# EAGLE library part 615008137121 (library Input-Output_Connectors_rev15d)
WR-MJ Horizontal Plastic 8P8C Modular Jack Tab Down, 8 Pins=>Code : Con_I_O_MJ-H_Plastic_Down_615008137121 <http://katalog.we-online.de/media/images/eican/Con_I_O_MJ-H_Plastic_Down_615008137121_pf2.jpg> Details see: http://katalog.we-online.de/en/em/615_008_137_121 Created 2014-07-10, Karrer Zheng 2014 (C) Würth Elektronik
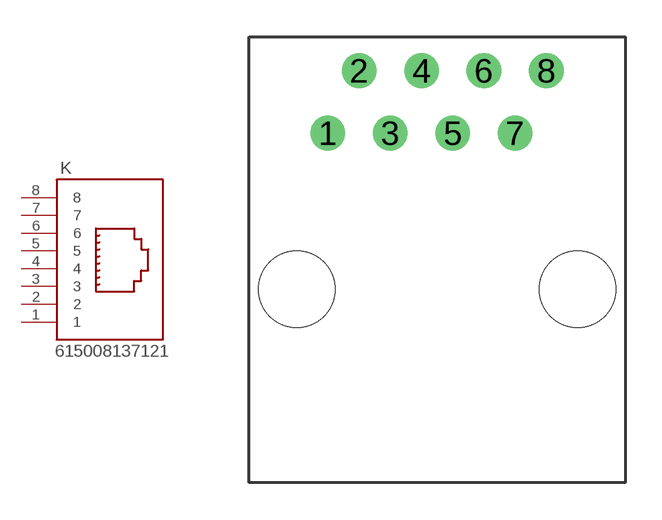
[diagram p107: symbol with the pads of 615008137121; footprint 615008137121]

Designator prefix K

## 615008137121  [615008137121]
1  1  pas
2  2  pas
3  3  pas
4  4  pas
5  5  pas
6  6  pas
7  7  pas
8  8  pas

## Footprint 615008137121 (pad centres in mm)
WR-MJ Horizontal Plastic 8P8C Modular Jack Tab Down, 8 Pins
drill 0.9: 1 -4.445,6.35; 2 -3.175,8.89; 3 -1.905,6.35; 4 -0.635,8.89; 5 0.635,6.35; 6 1.905,8.89; 7 3.175,6.35; 8 4.445,8.89
hole 3.1 at -5.715,0
hole 3.1 at 5.715,0